# EAGLE library part TPS61027DRCR (library TPS61027DRCR)
Switching Voltage Regulators 5-V Otp 1.5-A Swit Boost Converter Source: Datasheet <http://www.ti.com/lit/ds/symlink/tps61027.pdf>
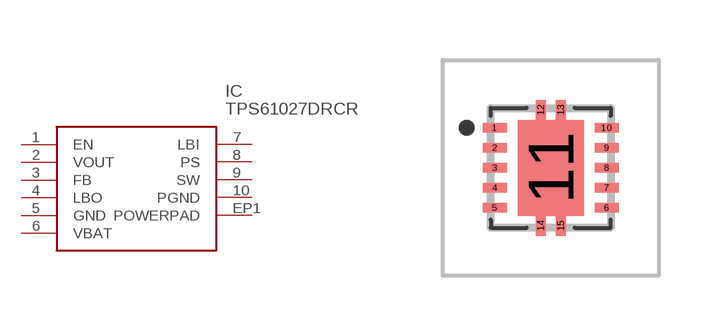
[diagram p0: symbol with the pads of TPS74901DRCR; footprint TPS74901DRCR]

Designator prefix IC

## TPS61027DRCR (Arrow_Part_Number: TPS61027DRCR; Arrow_Price-Stock: https://www.arrow.com/en/products/tps61027drcr/texas-instruments?utm_currency=USD&region=nac; Description: Switching Voltage Regulators 5-V Otp 1.5-A Swit Boost Converter; Height: mm; Manufacturer_Name: Texas Instruments; Manufacturer_Part_Number: TPS61027DRCR; Mouser_Part_Number: 595-TPS61027DRCR; Mouser_Price-Stock: https://www.mouser.co.uk/ProductDetail/Texas-Instruments/TPS61027DRCR?qs=Gse6rAGbi78iAvUvZ29RAw%3D%3D)  [TPS74901DRCR]
1  EN
2  VOUT
3  FB
4  LBO
5  GND
6  VBAT
7  LBI
8  PS
9  SW
10  PGND
EP1  POWERPAD

## Footprint TPS74901DRCR (pad centres in mm)
DRC0010J
smd 0.6 x 0.24: 1 -1.4,1; 2 -1.4,0.5; 3 -1.4,0; 4 -1.4,-0.5; 5 -1.4,-1; 6 1.4,-1; 7 1.4,-0.5; 8 1.4,0; 9 1.4,0.5; 10 1.4,1
smd 1.65 x 2.4: 11 0,0
smd 0.25 x 0.5: 12 -0.25,1.45; 13 0.25,1.45; 14 -0.25,-1.45; 15 0.25,-1.45